# Altium schematic symbol library added_library.SchLib: 6 symbols
Pins are listed as number, name and electrical type; pins without a type are passive.

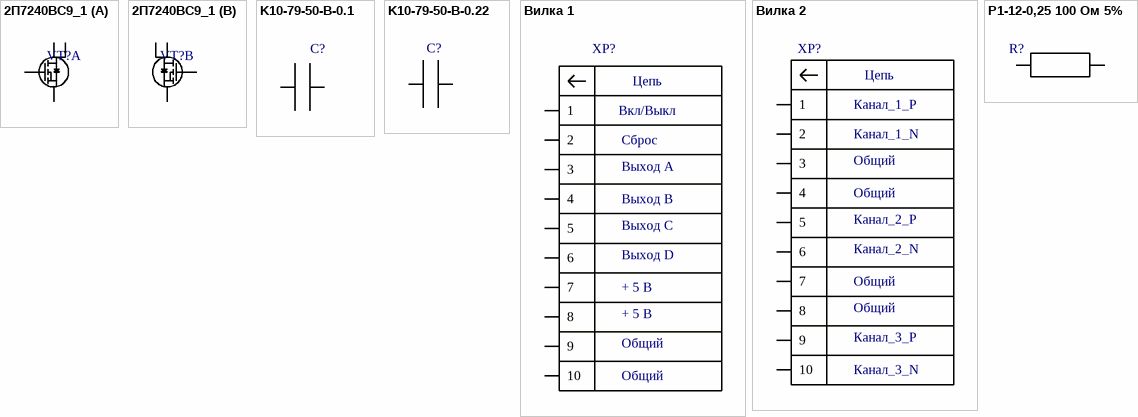
[diagram p0: symbols 2П7240ВС9_1 to Р1-12-0,25 100 Ом 5%]

## 2П7240ВС9_1
designator VT?  (value not drawn)
footprint 2П7240ВС9 - duplicate (8-Pin Small Outline Integrated Circuit 1.27 mm Pitch, IPC Medium Density)
part A pins: 1, 2, 7, 8
part B pins: 3, 3, 4, 5, 6

## K10-79-50-B-0.1
designator C?  (value not drawn)
footprint К10-79-50-0.1 (Chip Capacitor, 2-Leads, Body 3,20x1,60mm, IPC Medium Density)
pins: 1, 2

## K10-79-50-B-0.22
designator С?  (value not drawn)
footprint CAPC3225X20N (Chip Capacitor, 2-Leads, Body 3,20x2,50mm, IPC Medium Density)
pins: 1, 2

## Вилка 1
designator XP?  (value not drawn)
footprint BH-10R (Разъем угловой 2х5х2,54 типа ВН)
pins: 1, 2, 3, 4, 5, 6, 7, 8, 9, 10
text: Цепь; Вкл/Выкл; Сброс; Выход А; Выход В; Выход C; Выход D; + 5 B; Общий

## Вилка 2
designator XP?  (value not drawn)
footprint BH-10R (Разъем угловой 2х5х2,54 типа ВН)
pins: 1, 2, 3, 4, 5, 6, 7, 8, 9, 10
text: Цепь; Канал_1_P; Канал_1_N; Общий; Канал_2_P; Канал_2_N; Канал_3_P; Канал_3_N

## Р1-12-0,25 100 Ом 5%
designator R?
Резистор Р1-12-0,25 100 Ом 5%-M-"A" АЛЯР.434110.005 ТУ
footprint Р1-12-0,25 100 Ом 5%
pins: 1, 2 0